# Altium schematic symbol library MCU_Microchip_PIC32.SchLib: 17 symbols
Pins are listed as number, name and electrical type; pins without a type are passive.

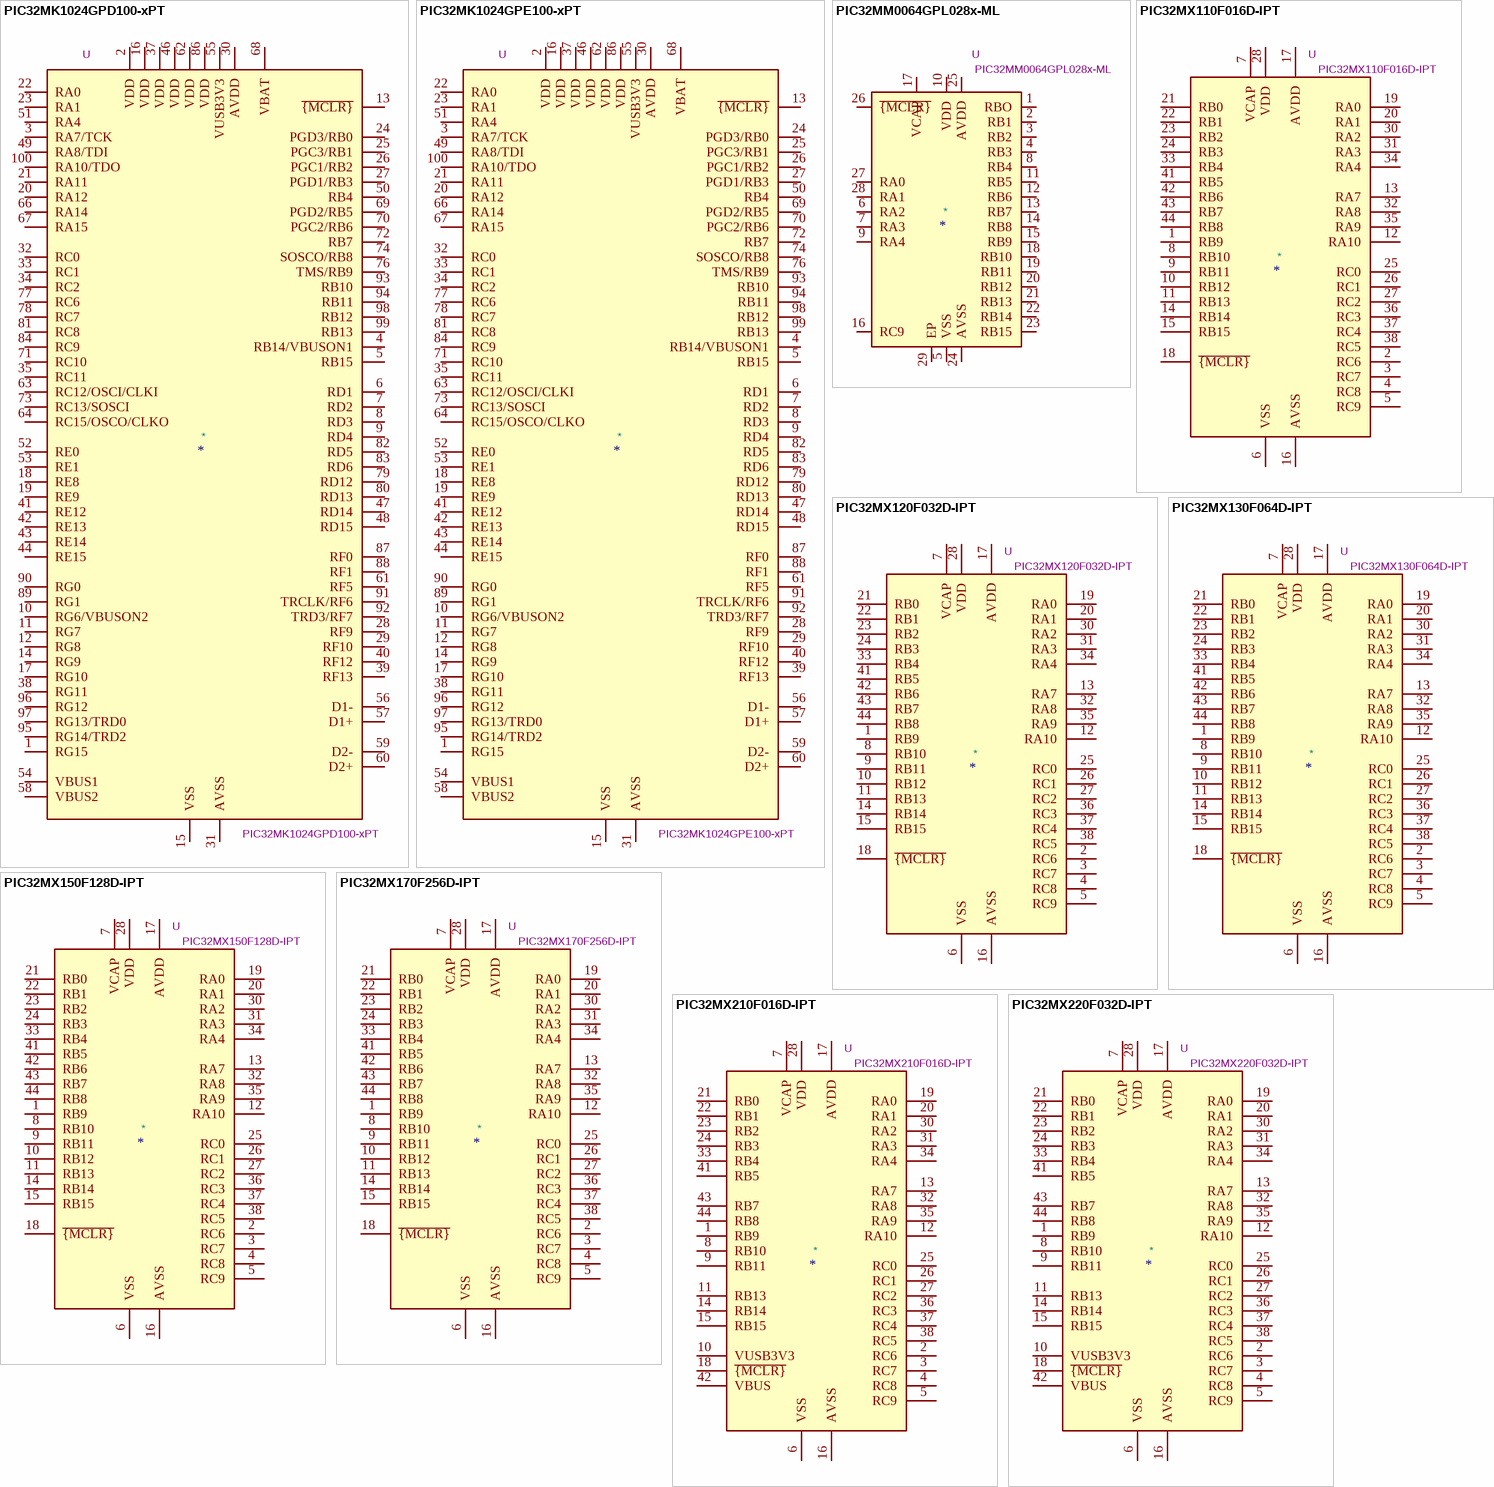
[diagram p0: symbols PIC32MK1024GPD100-xPT to PIC32MX220F032D-IPT]

## PIC32MK1024GPD100-xPT
designator *  value PIC32MK1024GPD100-xPT  Reference: U
ki_keywords: 32-bit MIPS MCU Microcontroller; ki_description: MIPS MCU, 120MHz, 1MB Flash, 256KB RAM, 2.3-3.6V, USB, TQFP-100; ki_fp_filters: TQFP*12x12mm*P0.4mm*; Footprint: Package_QFP:TQFP-100_12x12mm_P0.4mm; Datasheet: http://ww1.microchip.com/downloads/en/DeviceDoc/PIC32MK_GP_MC_Familly_Datasheet_60001402G.pdf
pins: 1 RG15, 2 VDD, 3 RA7/TCK, 4 RB14/VBUSON1, 5 RB15, 6 RD1, 7 RD2, 8 RD3, 9 RD4, 10 RG6/VBUSON2, 11 RG7, 12 RG8, 13 ~{{MCLR}}, 14 RG9, 15 VSS, 16 VDD, 17 RG10, 18 RE8, 19 RE9, 20 RA12, 21 RA11, 22 RA0, 23 RA1, 24 PGD3/RB0, 25 PGC3/RB1, 26 PGC1/RB2, 27 PGD1/RB3, 28 RF9, 29 RF10, 30 AVDD, 31 AVSS, 32 RC0, 33 RC1, 34 RC2, 35 RC11, 36 VSS hidden, 37 VDD, 38 RG11, 39 RF13, 40 RF12, 41 RE12, 42 RE13, 43 RE14, 44 RE15, 45 VSS hidden, 46 VDD, 47 RD14, 48 RD15, 49 RA8/TDI, 50 RB4, 51 RA4, 52 RE0, 53 RE1, 54 VBUS1, 55 VUSB3V3, 56 D1-, 57 D1+, 58 VBUS2, 59 D2-, 60 D2+, 61 RF5, 62 VDD, 63 RC12/OSCI/CLKI, 64 RC15/OSCO/CLKO, 65 VSS hidden, 66 RA14, 67 RA15, 68 VBAT, 69 PGD2/RB5, 70 PGC2/RB6, 71 RC10, 72 RB7, 73 RC13/SOSCI, 74 SOSCO/RB8, 75 VSS hidden, 76 TMS/RB9, 77 RC6, 78 RC7, 79 RD12, 80 RD13, 81 RC8, 82 RD5, 83 RD6, 84 RC9, 85 VSS hidden, 86 VDD, 87 RF0, 88 RF1, 89 RG1, 90 RG0, 91 TRCLK/RF6, 92 TRD3/RF7, 93 RB10, 94 RB11, 95 RG14/TRD2, 96 RG12, 97 RG13/TRD0, 98 RB12, 99 RB13, 100 RA10/TDO

## PIC32MK1024GPE100-xPT
designator *  value PIC32MK1024GPE100-xPT  Reference: U
ki_keywords: 32-bit MIPS MCU Microcontroller; ki_description: MIPS MCU, 120MHz, 1MB Flash, 256KB RAM, 2.3-3.6V, USB, TQFP-100; ki_fp_filters: TQFP*12x12mm*P0.4mm*; Footprint: Package_QFP:TQFP-100_12x12mm_P0.4mm; Datasheet: http://ww1.microchip.com/downloads/en/DeviceDoc/PIC32MK_GP_MC_Familly_Datasheet_60001402G.pdf
pins: 1 RG15, 2 VDD, 3 RA7/TCK, 4 RB14/VBUSON1, 5 RB15, 6 RD1, 7 RD2, 8 RD3, 9 RD4, 10 RG6/VBUSON2, 11 RG7, 12 RG8, 13 ~{{MCLR}}, 14 RG9, 15 VSS, 16 VDD, 17 RG10, 18 RE8, 19 RE9, 20 RA12, 21 RA11, 22 RA0, 23 RA1, 24 PGD3/RB0, 25 PGC3/RB1, 26 PGC1/RB2, 27 PGD1/RB3, 28 RF9, 29 RF10, 30 AVDD, 31 AVSS, 32 RC0, 33 RC1, 34 RC2, 35 RC11, 36 VSS hidden, 37 VDD, 38 RG11, 39 RF13, 40 RF12, 41 RE12, 42 RE13, 43 RE14, 44 RE15, 45 VSS hidden, 46 VDD, 47 RD14, 48 RD15, 49 RA8/TDI, 50 RB4, 51 RA4, 52 RE0, 53 RE1, 54 VBUS1, 55 VUSB3V3, 56 D1-, 57 D1+, 58 VBUS2, 59 D2-, 60 D2+, 61 RF5, 62 VDD, 63 RC12/OSCI/CLKI, 64 RC15/OSCO/CLKO, 65 VSS hidden, 66 RA14, 67 RA15, 68 VBAT, 69 PGD2/RB5, 70 PGC2/RB6, 71 RC10, 72 RB7, 73 RC13/SOSCI, 74 SOSCO/RB8, 75 VSS hidden, 76 TMS/RB9, 77 RC6, 78 RC7, 79 RD12, 80 RD13, 81 RC8, 82 RD5, 83 RD6, 84 RC9, 85 VSS hidden, 86 VDD, 87 RF0, 88 RF1, 89 RG1, 90 RG0, 91 TRCLK/RF6, 92 TRD3/RF7, 93 RB10, 94 RB11, 95 RG14/TRD2, 96 RG12, 97 RG13/TRD0, 98 RB12, 99 RB13, 100 RA10/TDO

## PIC32MM0064GPL028x-ML
designator *  value PIC32MM0064GPL028x-ML  Reference: U
ki_keywords: FLASH-Based 32-Bit CMOS Microcontroller; ki_description: 32-Bit Flash MCU, 25MHz, 64KB Flash, 8KB RAM, QFN-28; ki_fp_filters: QFN*1EP*6x6mm*P0.65mm*; Footprint: Package_DFN_QFN:QFN-28-1EP_6x6mm_P0.65mm_EP4.25x4.25mm; Datasheet: http://ww1.microchip.com/downloads/en/DeviceDoc/PIC32MM0064GPL036-Family-Data-Sheet-DS60001324C.pdf
pins: 1 RBO, 2 RB1, 3 RB2, 4 RB3, 5 VSS, 6 RA2, 7 RA3, 8 RB4, 9 RA4, 10 VDD, 11 RB5, 12 RB6, 13 RB7, 14 RB8, 15 RB9, 16 RC9, 17 VCAP, 18 RB10, 19 RB11, 20 RB12, 21 RB13, 22 RB14, 23 RB15, 24 AVSS, 25 AVDD, 26 ~{{MCLR}}, 27 RA0, 28 RA1, 29 EP

## PIC32MX110F016D-IPT
designator *  value PIC32MX110F016D-IPT  Reference: U
ki_keywords: Microchip PIC32 Microcontroller MIPS; ki_description: 32-bit Microcontrollers (16KB Flash and 4KB SRAM TQFP-44) with Audio and Graphics Interfaces, USB, and Advanced Analog; ki_fp_filters: TQFP*10x10mm*P0.8mm*; Footprint: Package_QFP:TQFP-44_10x10mm_P0.8mm; Datasheet: http://ww1.microchip.com/downloads/en/DeviceDoc/60001168F.pdf
pins: 1 RB9, 2 RC6, 3 RC7, 4 RC8, 5 RC9, 6 VSS, 7 VCAP, 8 RB10, 9 RB11, 10 RB12, 11 RB13, 12 RA10, 13 RA7, 14 RB14, 15 RB15, 16 AVSS, 17 AVDD, 18 ~{{MCLR}}, 19 RA0, 20 RA1, 21 RB0, 22 RB1, 23 RB2, 24 RB3, 25 RC0, 26 RC1, 27 RC2, 28 VDD, 29 VSS hidden, 30 RA2, 31 RA3, 32 RA8, 33 RB4, 34 RA4, 35 RA9, 36 RC3, 37 RC4, 38 RC5, 39 VSS hidden, 40 VDD hidden, 41 RB5, 42 RB6, 43 RB7, 44 RB8

## PIC32MX120F032D-IPT
designator *  value PIC32MX120F032D-IPT  Reference: U
ki_keywords: Microchip PIC32 Microcontroller MIPS; ki_description: 32-bit Microcontrollers (32KB Flash and 8KB SRAM TQFP-44) with Audio and Graphics Interfaces, USB, and Advanced Analog; ki_fp_filters: TQFP*10x10mm*P0.8mm*; Footprint: Package_QFP:TQFP-44_10x10mm_P0.8mm; Datasheet: http://ww1.microchip.com/downloads/en/DeviceDoc/60001168F.pdf
pins: 1 RB9, 2 RC6, 3 RC7, 4 RC8, 5 RC9, 6 VSS, 7 VCAP, 8 RB10, 9 RB11, 10 RB12, 11 RB13, 12 RA10, 13 RA7, 14 RB14, 15 RB15, 16 AVSS, 17 AVDD, 18 ~{{MCLR}}, 19 RA0, 20 RA1, 21 RB0, 22 RB1, 23 RB2, 24 RB3, 25 RC0, 26 RC1, 27 RC2, 28 VDD, 29 VSS hidden, 30 RA2, 31 RA3, 32 RA8, 33 RB4, 34 RA4, 35 RA9, 36 RC3, 37 RC4, 38 RC5, 39 VSS hidden, 40 VDD hidden, 41 RB5, 42 RB6, 43 RB7, 44 RB8

## PIC32MX130F064D-IPT
designator *  value PIC32MX130F064D-IPT  Reference: U
ki_keywords: Microchip PIC32 Microcontroller MIPS; ki_description: 32-bit Microcontrollers (64KB Flash and 16KB SRAM TQFP-44) with Audio and Graphics Interfaces, USB, and Advanced Analog; ki_fp_filters: TQFP*10x10mm*P0.8mm*; Footprint: Package_QFP:TQFP-44_10x10mm_P0.8mm; Datasheet: http://ww1.microchip.com/downloads/en/DeviceDoc/60001168F.pdf
pins: 1 RB9, 2 RC6, 3 RC7, 4 RC8, 5 RC9, 6 VSS, 7 VCAP, 8 RB10, 9 RB11, 10 RB12, 11 RB13, 12 RA10, 13 RA7, 14 RB14, 15 RB15, 16 AVSS, 17 AVDD, 18 ~{{MCLR}}, 19 RA0, 20 RA1, 21 RB0, 22 RB1, 23 RB2, 24 RB3, 25 RC0, 26 RC1, 27 RC2, 28 VDD, 29 VSS hidden, 30 RA2, 31 RA3, 32 RA8, 33 RB4, 34 RA4, 35 RA9, 36 RC3, 37 RC4, 38 RC5, 39 VSS hidden, 40 VDD hidden, 41 RB5, 42 RB6, 43 RB7, 44 RB8

## PIC32MX150F128D-IPT
designator *  value PIC32MX150F128D-IPT  Reference: U
ki_keywords: Microchip PIC32 Microcontroller MIPS; ki_description: 32-bit Microcontrollers (128KB Flash and 32KB SRAM TQFP-44) with Audio and Graphics Interfaces, USB, and Advanced Analog; ki_fp_filters: TQFP*10x10mm*P0.8mm*; Footprint: Package_QFP:TQFP-44_10x10mm_P0.8mm; Datasheet: http://ww1.microchip.com/downloads/en/DeviceDoc/60001168F.pdf
pins: 1 RB9, 2 RC6, 3 RC7, 4 RC8, 5 RC9, 6 VSS, 7 VCAP, 8 RB10, 9 RB11, 10 RB12, 11 RB13, 12 RA10, 13 RA7, 14 RB14, 15 RB15, 16 AVSS, 17 AVDD, 18 ~{{MCLR}}, 19 RA0, 20 RA1, 21 RB0, 22 RB1, 23 RB2, 24 RB3, 25 RC0, 26 RC1, 27 RC2, 28 VDD, 29 VSS hidden, 30 RA2, 31 RA3, 32 RA8, 33 RB4, 34 RA4, 35 RA9, 36 RC3, 37 RC4, 38 RC5, 39 VSS hidden, 40 VDD hidden, 41 RB5, 42 RB6, 43 RB7, 44 RB8

## PIC32MX170F256D-IPT
designator *  value PIC32MX170F256D-IPT  Reference: U
ki_keywords: Microchip PIC32 Microcontroller MIPS; ki_description: 32-bit Microcontrollers (256KB Flash and 64KB SRAM TQFP-44) with Audio and Graphics Interfaces, USB, and Advanced Analog; ki_fp_filters: TQFP*10x10mm*P0.8mm*; Footprint: Package_QFP:TQFP-44_10x10mm_P0.8mm; Datasheet: http://ww1.microchip.com/downloads/en/DeviceDoc/60001168F.pdf
pins: 1 RB9, 2 RC6, 3 RC7, 4 RC8, 5 RC9, 6 VSS, 7 VCAP, 8 RB10, 9 RB11, 10 RB12, 11 RB13, 12 RA10, 13 RA7, 14 RB14, 15 RB15, 16 AVSS, 17 AVDD, 18 ~{{MCLR}}, 19 RA0, 20 RA1, 21 RB0, 22 RB1, 23 RB2, 24 RB3, 25 RC0, 26 RC1, 27 RC2, 28 VDD, 29 VSS hidden, 30 RA2, 31 RA3, 32 RA8, 33 RB4, 34 RA4, 35 RA9, 36 RC3, 37 RC4, 38 RC5, 39 VSS hidden, 40 VDD hidden, 41 RB5, 42 RB6, 43 RB7, 44 RB8

## PIC32MX210F016D-IPT
designator *  value PIC32MX210F016D-IPT  Reference: U
ki_keywords: Microchip PIC32 Microcontroller MIPS; ki_description: 32-bit Microcontrollers (16KB Flash and 4KB SRAM TQFP-44) with Audio and Graphics Interfaces, USB, and Advanced Analog; ki_fp_filters: TQFP*10x10mm*P0.8mm*; Footprint: Package_QFP:TQFP-44_10x10mm_P0.8mm; Datasheet: http://ww1.microchip.com/downloads/en/DeviceDoc/60001168F.pdf
pins: 1 RB9, 2 RC6, 3 RC7, 4 RC8, 5 RC9, 6 VSS, 7 VCAP, 8 RB10, 9 RB11, 10 VUSB3V3, 11 RB13, 12 RA10, 13 RA7, 14 RB14, 15 RB15, 16 AVSS, 17 AVDD, 18 ~{{MCLR}}, 19 RA0, 20 RA1, 21 RB0, 22 RB1, 23 RB2, 24 RB3, 25 RC0, 26 RC1, 27 RC2, 28 VDD, 29 VSS hidden, 30 RA2, 31 RA3, 32 RA8, 33 RB4, 34 RA4, 35 RA9, 36 RC3, 37 RC4, 38 RC5, 39 VSS hidden, 40 VDD hidden, 41 RB5, 42 VBUS, 43 RB7, 44 RB8

## PIC32MX220F032D-IPT
designator *  value PIC32MX220F032D-IPT  Reference: U
ki_keywords: Microchip PIC32 Microcontroller MIPS; ki_description: 32-bit Microcontrollers (32KB Flash and 8KB SRAM TQFP-44) with Audio and Graphics Interfaces, USB, and Advanced Analog; ki_fp_filters: TQFP*10x10mm*P0.8mm*; Footprint: Package_QFP:TQFP-44_10x10mm_P0.8mm; Datasheet: http://ww1.microchip.com/downloads/en/DeviceDoc/60001168F.pdf
pins: 1 RB9, 2 RC6, 3 RC7, 4 RC8, 5 RC9, 6 VSS, 7 VCAP, 8 RB10, 9 RB11, 10 VUSB3V3, 11 RB13, 12 RA10, 13 RA7, 14 RB14, 15 RB15, 16 AVSS, 17 AVDD, 18 ~{{MCLR}}, 19 RA0, 20 RA1, 21 RB0, 22 RB1, 23 RB2, 24 RB3, 25 RC0, 26 RC1, 27 RC2, 28 VDD, 29 VSS hidden, 30 RA2, 31 RA3, 32 RA8, 33 RB4, 34 RA4, 35 RA9, 36 RC3, 37 RC4, 38 RC5, 39 VSS hidden, 40 VDD hidden, 41 RB5, 42 VBUS, 43 RB7, 44 RB8

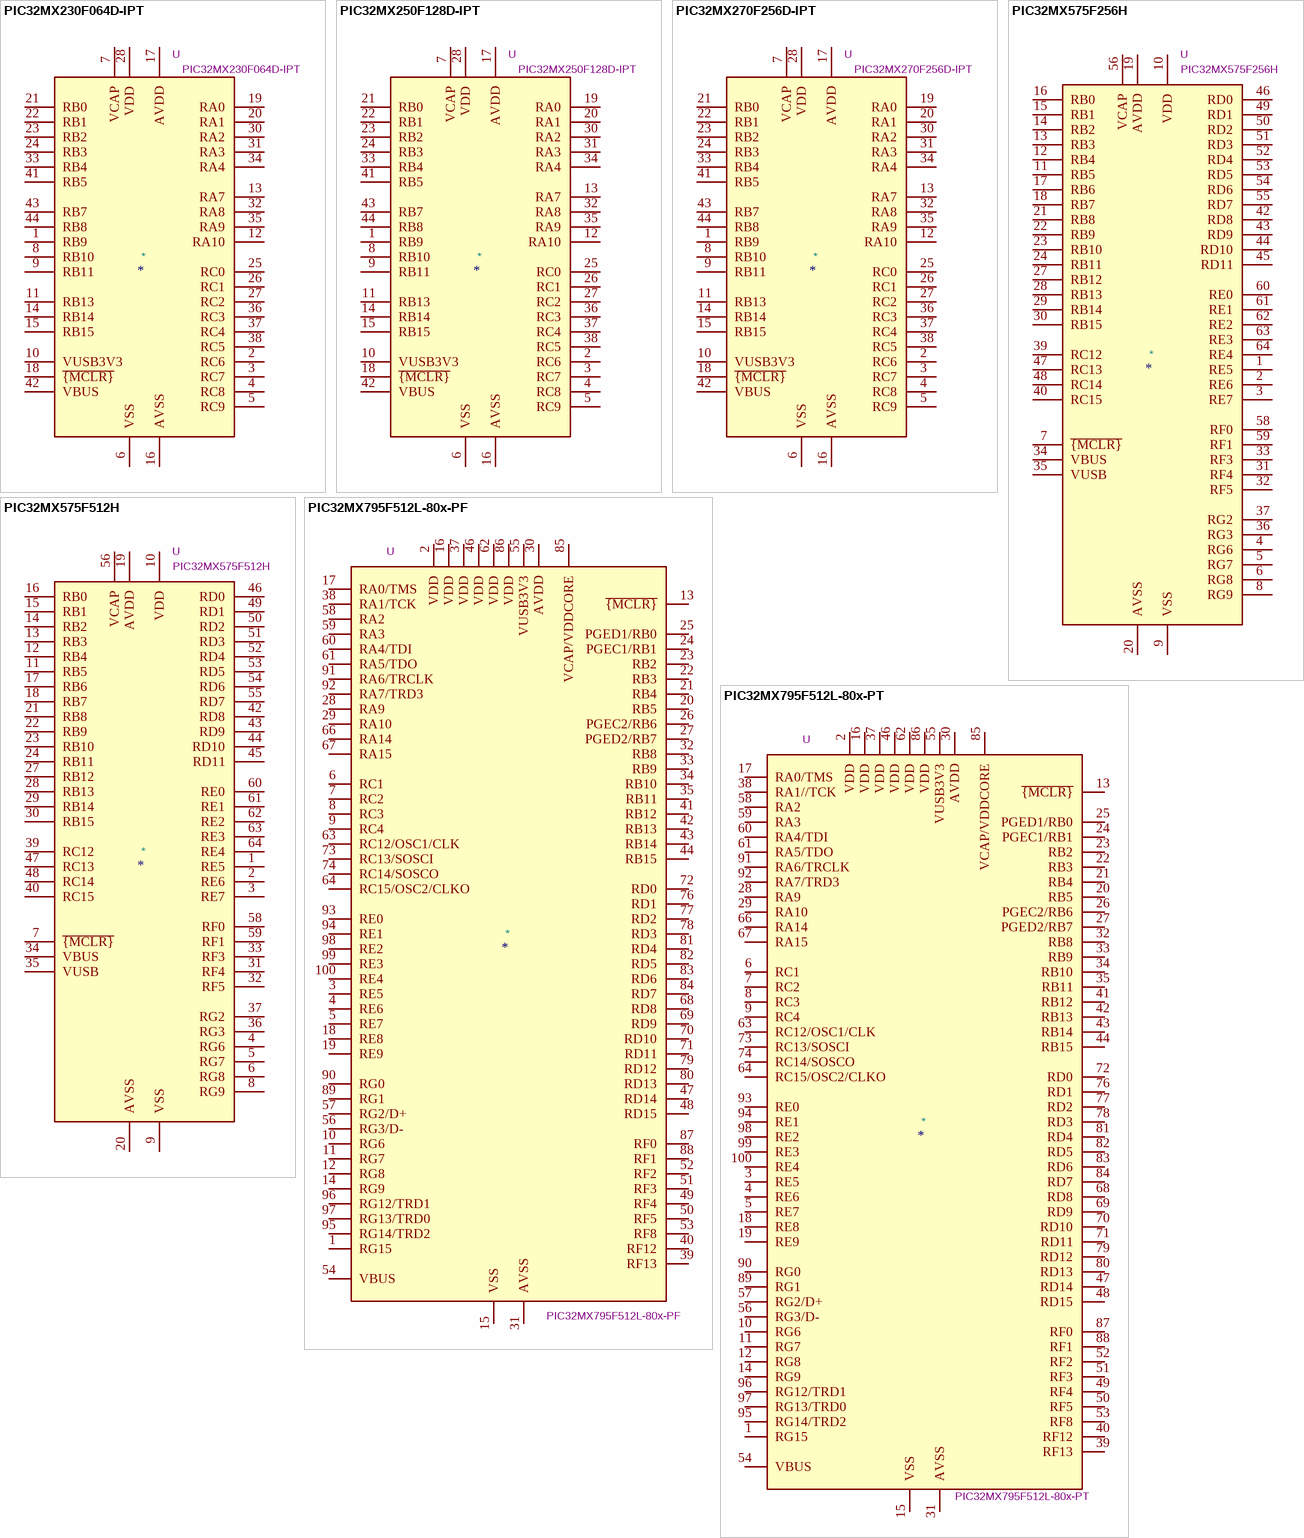
[diagram p1: symbols PIC32MX230F064D-IPT to PIC32MX795F512L-80x-PT]

## PIC32MX230F064D-IPT
designator *  value PIC32MX230F064D-IPT  Reference: U
ki_keywords: Microchip PIC32 Microcontroller MIPS; ki_description: 32-bit Microcontrollers (64KB Flash and 16KB SRAM TQFP-44) with Audio and Graphics Interfaces, USB, and Advanced Analog; ki_fp_filters: TQFP*10x10mm*P0.8mm*; Footprint: Package_QFP:TQFP-44_10x10mm_P0.8mm; Datasheet: http://ww1.microchip.com/downloads/en/DeviceDoc/60001168F.pdf
pins: 1 RB9, 2 RC6, 3 RC7, 4 RC8, 5 RC9, 6 VSS, 7 VCAP, 8 RB10, 9 RB11, 10 VUSB3V3, 11 RB13, 12 RA10, 13 RA7, 14 RB14, 15 RB15, 16 AVSS, 17 AVDD, 18 ~{{MCLR}}, 19 RA0, 20 RA1, 21 RB0, 22 RB1, 23 RB2, 24 RB3, 25 RC0, 26 RC1, 27 RC2, 28 VDD, 29 VSS hidden, 30 RA2, 31 RA3, 32 RA8, 33 RB4, 34 RA4, 35 RA9, 36 RC3, 37 RC4, 38 RC5, 39 VSS hidden, 40 VDD hidden, 41 RB5, 42 VBUS, 43 RB7, 44 RB8

## PIC32MX250F128D-IPT
designator *  value PIC32MX250F128D-IPT  Reference: U
ki_keywords: Microchip PIC32 Microcontroller MIPS; ki_description: 32-bit Microcontrollers (128KB Flash and 32KB SRAM TQFP-44) with Audio and Graphics Interfaces, USB, and Advanced Analog; ki_fp_filters: TQFP*10x10mm*P0.8mm*; Footprint: Package_QFP:TQFP-44_10x10mm_P0.8mm; Datasheet: http://ww1.microchip.com/downloads/en/DeviceDoc/60001168F.pdf
pins: 1 RB9, 2 RC6, 3 RC7, 4 RC8, 5 RC9, 6 VSS, 7 VCAP, 8 RB10, 9 RB11, 10 VUSB3V3, 11 RB13, 12 RA10, 13 RA7, 14 RB14, 15 RB15, 16 AVSS, 17 AVDD, 18 ~{{MCLR}}, 19 RA0, 20 RA1, 21 RB0, 22 RB1, 23 RB2, 24 RB3, 25 RC0, 26 RC1, 27 RC2, 28 VDD, 29 VSS hidden, 30 RA2, 31 RA3, 32 RA8, 33 RB4, 34 RA4, 35 RA9, 36 RC3, 37 RC4, 38 RC5, 39 VSS hidden, 40 VDD hidden, 41 RB5, 42 VBUS, 43 RB7, 44 RB8

## PIC32MX270F256D-IPT
designator *  value PIC32MX270F256D-IPT  Reference: U
ki_keywords: Microchip PIC32 Microcontroller MIPS; ki_description: 32-bit Microcontrollers (256KB Flash and 64KB SRAM TQFP-44) with Audio and Graphics Interfaces, USB, and Advanced Analog; ki_fp_filters: TQFP*10x10mm*P0.8mm*; Footprint: Package_QFP:TQFP-44_10x10mm_P0.8mm; Datasheet: http://ww1.microchip.com/downloads/en/DeviceDoc/60001168F.pdf
pins: 1 RB9, 2 RC6, 3 RC7, 4 RC8, 5 RC9, 6 VSS, 7 VCAP, 8 RB10, 9 RB11, 10 VUSB3V3, 11 RB13, 12 RA10, 13 RA7, 14 RB14, 15 RB15, 16 AVSS, 17 AVDD, 18 ~{{MCLR}}, 19 RA0, 20 RA1, 21 RB0, 22 RB1, 23 RB2, 24 RB3, 25 RC0, 26 RC1, 27 RC2, 28 VDD, 29 VSS hidden, 30 RA2, 31 RA3, 32 RA8, 33 RB4, 34 RA4, 35 RA9, 36 RC3, 37 RC4, 38 RC5, 39 VSS hidden, 40 VDD hidden, 41 RB5, 42 VBUS, 43 RB7, 44 RB8

## PIC32MX575F256H
designator *  value PIC32MX575F256H  Reference: U
ki_keywords: Microchip PIC32 Microcontroller MIPS; ki_description: 32-bit Microcontrollers (64KB Flash and 16KB SRAM TQFP-64 QFN-64) USB, CAN and Ethernet; ki_fp_filters: Package*QFP:QFP*10x10mm*P0.5mm* Package*DFN*QFN:QFN*1EP*9x9mm*P0.5mm*; Datasheet: http://ww1.microchip.com/downloads/en/DeviceDoc/61156G.pdf
pins: 1 RE5, 2 RE6, 3 RE7, 4 RG6, 5 RG7, 6 RG8, 7 ~{{MCLR}}, 8 RG9, 9 VSS, 10 VDD, 11 RB5, 12 RB4, 13 RB3, 14 RB2, 15 RB1, 16 RB0, 17 RB6, 18 RB7, 19 AVDD, 20 AVSS, 21 RB8, 22 RB9, 23 RB10, 24 RB11, 25 VSS hidden, 26 VDD hidden, 27 RB12, 28 RB13, 29 RB14, 30 RB15, 31 RF4, 32 RF5, 33 RF3, 34 VBUS, 35 VUSB, 36 RG3, 37 RG2, 38 VDD hidden, 39 RC12, 40 RC15, 41 VSS hidden, 42 RD8, 43 RD9, 44 RD10, 45 RD11, 46 RD0, 47 RC13, 48 RC14, 49 RD1, 50 RD2, 51 RD3, 52 RD4, 53 RD5, 54 RD6, 55 RD7, 56 VCAP, 57 VDD hidden, 58 RF0, 59 RF1, 60 RE0, 61 RE1, 62 RE2, 63 RE3, 64 RE4

## PIC32MX575F512H
designator *  value PIC32MX575F512H  Reference: U
ki_keywords: Microchip PIC32 Microcontroller MIPS; ki_description: 32-bit Microcontrollers (64KB Flash and 16KB SRAM TQFP-64 QFN-64) USB, CAN and Ethernet; ki_fp_filters: Package*QFP:QFP*10x10mm*P0.5mm* Package*DFN*QFN:QFN*1EP*9x9mm*P0.5mm*; Datasheet: http://ww1.microchip.com/downloads/en/DeviceDoc/61156G.pdf
pins: 1 RE5, 2 RE6, 3 RE7, 4 RG6, 5 RG7, 6 RG8, 7 ~{{MCLR}}, 8 RG9, 9 VSS, 10 VDD, 11 RB5, 12 RB4, 13 RB3, 14 RB2, 15 RB1, 16 RB0, 17 RB6, 18 RB7, 19 AVDD, 20 AVSS, 21 RB8, 22 RB9, 23 RB10, 24 RB11, 25 VSS hidden, 26 VDD hidden, 27 RB12, 28 RB13, 29 RB14, 30 RB15, 31 RF4, 32 RF5, 33 RF3, 34 VBUS, 35 VUSB, 36 RG3, 37 RG2, 38 VDD hidden, 39 RC12, 40 RC15, 41 VSS hidden, 42 RD8, 43 RD9, 44 RD10, 45 RD11, 46 RD0, 47 RC13, 48 RC14, 49 RD1, 50 RD2, 51 RD3, 52 RD4, 53 RD5, 54 RD6, 55 RD7, 56 VCAP, 57 VDD hidden, 58 RF0, 59 RF1, 60 RE0, 61 RE1, 62 RE2, 63 RE3, 64 RE4

## PIC32MX795F512L-80x-PF
designator *  value PIC32MX795F512L-80x-PF  Reference: U
ki_keywords: 32-bit MIPS MCU Microcontroller; ki_description: MIPS MCU, 80MHz, 512KB Flash, 12KB Boot Flash, 128KB RAM, 2.3-3.6V, USB, CAN, Ethernet, TQFP-100; ki_fp_filters: TQFP*14x14mm*P0.5mm*; Footprint: Package_QFP:TQFP-100_14x14mm_P0.5mm; Datasheet: http://ww1.microchip.com/downloads/en/DeviceDoc/60001156J.pdf
pins: 1 RG15, 2 VDD, 3 RE5, 4 RE6, 5 RE7, 6 RC1, 7 RC2, 8 RC3, 9 RC4, 10 RG6, 11 RG7, 12 RG8, 13 ~{{MCLR}}, 14 RG9, 15 VSS, 16 VDD, 17 RA0/TMS, 18 RE8, 19 RE9, 20 RB5, 21 RB4, 22 RB3, 23 RB2, 24 PGEC1/RB1, 25 PGED1/RB0, 26 PGEC2/RB6, 27 PGED2/RB7, 28 RA9, 29 RA10, 30 AVDD, 31 AVSS, 32 RB8, 33 RB9, 34 RB10, 35 RB11, 36 VSS hidden, 37 VDD, 38 RA1/TCK, 39 RF13, 40 RF12, 41 RB12, 42 RB13, 43 RB14, 44 RB15, 45 VSS hidden, 46 VDD, 47 RD14, 48 RD15, 49 RF4, 50 RF5, 51 RF3, 52 RF2, 53 RF8, 54 VBUS, 55 VUSB3V3, 56 RG3/D-, 57 RG2/D+, 58 RA2, 59 RA3, 60 RA4/TDI, 61 RA5/TDO, 62 VDD, 63 RC12/OSC1/CLK, 64 RC15/OSC2/CLKO, 65 VSS hidden, 66 RA14, 67 RA15, 68 RD8, 69 RD9, 70 RD10, 71 RD11, 72 RD0, 73 RC13/SOSCI, 74 RC14/SOSCO, 75 VSS hidden, 76 RD1, 77 RD2, 78 RD3, 79 RD12, 80 RD13, 81 RD4, 82 RD5, 83 RD6, 84 RD7, 85 VCAP/VDDCORE, 86 VDD, 87 RF0, 88 RF1, 89 RG1, 90 RG0, 91 RA6/TRCLK, 92 RA7/TRD3, 93 RE0, 94 RE1, 95 RG14/TRD2, 96 RG12/TRD1, 97 RG13/TRD0, 98 RE2, 99 RE3, 100 RE4

## PIC32MX795F512L-80x-PT
designator *  value PIC32MX795F512L-80x-PT  Reference: U
ki_keywords: 32-bit MIPS MCU Microcontroller; ki_description: MIPS MCU, 80MHz, 512KB Flash, 12KB Boot Flash, 128KB RAM, 2.3-3.6V, USB, CAN, Ethernet, TQFP-100; ki_fp_filters: TQFP*12x12mm*P0.4mm*; Footprint: Package_QFP:TQFP-100_12x12mm_P0.4mm; Datasheet: http://ww1.microchip.com/downloads/en/DeviceDoc/60001156J.pdf
pins: 1 RG15, 2 VDD, 3 RE5, 4 RE6, 5 RE7, 6 RC1, 7 RC2, 8 RC3, 9 RC4, 10 RG6, 11 RG7, 12 RG8, 13 ~{{MCLR}}, 14 RG9, 15 VSS, 16 VDD, 17 RA0/TMS, 18 RE8, 19 RE9, 20 RB5, 21 RB4, 22 RB3, 23 RB2, 24 PGEC1/RB1, 25 PGED1/RB0, 26 PGEC2/RB6, 27 PGED2/RB7, 28 RA9, 29 RA10, 30 AVDD, 31 AVSS, 32 RB8, 33 RB9, 34 RB10, 35 RB11, 36 VSS hidden, 37 VDD, 38 RA1//TCK, 39 RF13, 40 RF12, 41 RB12, 42 RB13, 43 RB14, 44 RB15, 45 VSS hidden, 46 VDD, 47 RD14, 48 RD15, 49 RF4, 50 RF5, 51 RF3, 52 RF2, 53 RF8, 54 VBUS, 55 VUSB3V3, 56 RG3/D-, 57 RG2/D+, 58 RA2, 59 RA3, 60 RA4/TDI, 61 RA5/TDO, 62 VDD, 63 RC12/OSC1/CLK, 64 RC15/OSC2/CLKO, 65 VSS hidden, 66 RA14, 67 RA15, 68 RD8, 69 RD9, 70 RD10, 71 RD11, 72 RD0, 73 RC13/SOSCI, 74 RC14/SOSCO, 75 VSS hidden, 76 RD1, 77 RD2, 78 RD3, 79 RD12, 80 RD13, 81 RD4, 82 RD5, 83 RD6, 84 RD7, 85 VCAP/VDDCORE, 86 VDD, 87 RF0, 88 RF1, 89 RG1, 90 RG0, 91 RA6/TRCLK, 92 RA7/TRD3, 93 RE0, 94 RE1, 95 RG14/TRD2, 96 RG12/TRD1, 97 RG13/TRD0, 98 RE2, 99 RE3, 100 RE4